# EAGLE library part L293DNE (library crazyCar)
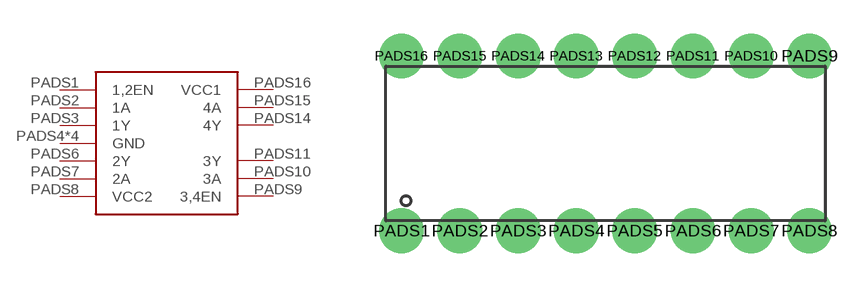
[diagram p1: symbol with the pads of L293DNE; footprint L293DNE]

Designator prefix -

## L293DNE  [L293DNE]
PADS1  1,2EN
PADS2  1A
PADS3  1Y
PADS4  GND
PADS5  GND
PADS6  2Y
PADS7  2A
PADS8  VCC2
PADS9  3,4EN
PADS10  3A
PADS11  3Y
PADS12  GND
PADS13  GND
PADS14  4Y
PADS15  4A
PADS16  VCC1

## Footprint L293DNE (pad centres in mm)
drill 1 pad 2: PADS1 0,0; PADS2 2.6,0; PADS3 5.2,0; PADS4 7.8,0; PADS5 10.4,0; PADS6 13,0; PADS7 15.6,0; PADS8 18.2,0; PADS9 18.2,7.8; PADS10 15.6,7.8; PADS11 13,7.8; PADS12 10.4,7.8; PADS13 7.8,7.8; PADS14 5.2,7.8; PADS15 2.6,7.8; PADS16 0,7.8